# Altium schematic symbol library BGA4C100X41P2X2_154X84X60N.SchLib: 1 symbol
Pins are listed as number, name and electrical type; pins without a type are passive.

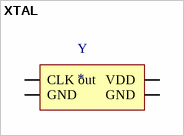
[diagram p0: symbol XTAL]

## XTAL
designator Y
footprint BGA4C100X41P2X2_154X84X60N
pins: 1 GND, 2 CLK out, 3 VDD (power), 4 GND